# Altium footprint library 研发中心PCB库文件.PcbLib: 333 footprints (part 8 of 21)
Each footprint in its own frame and in the unit in brackets; x right, y up, seen from the top. Pads: shape width x height; smd on the part's side, far side on the other; paste and mask are expansions set on the pad; w line width, h text height; cw(c..) or ccw(c..) is an arc to the next point about the centre after c.
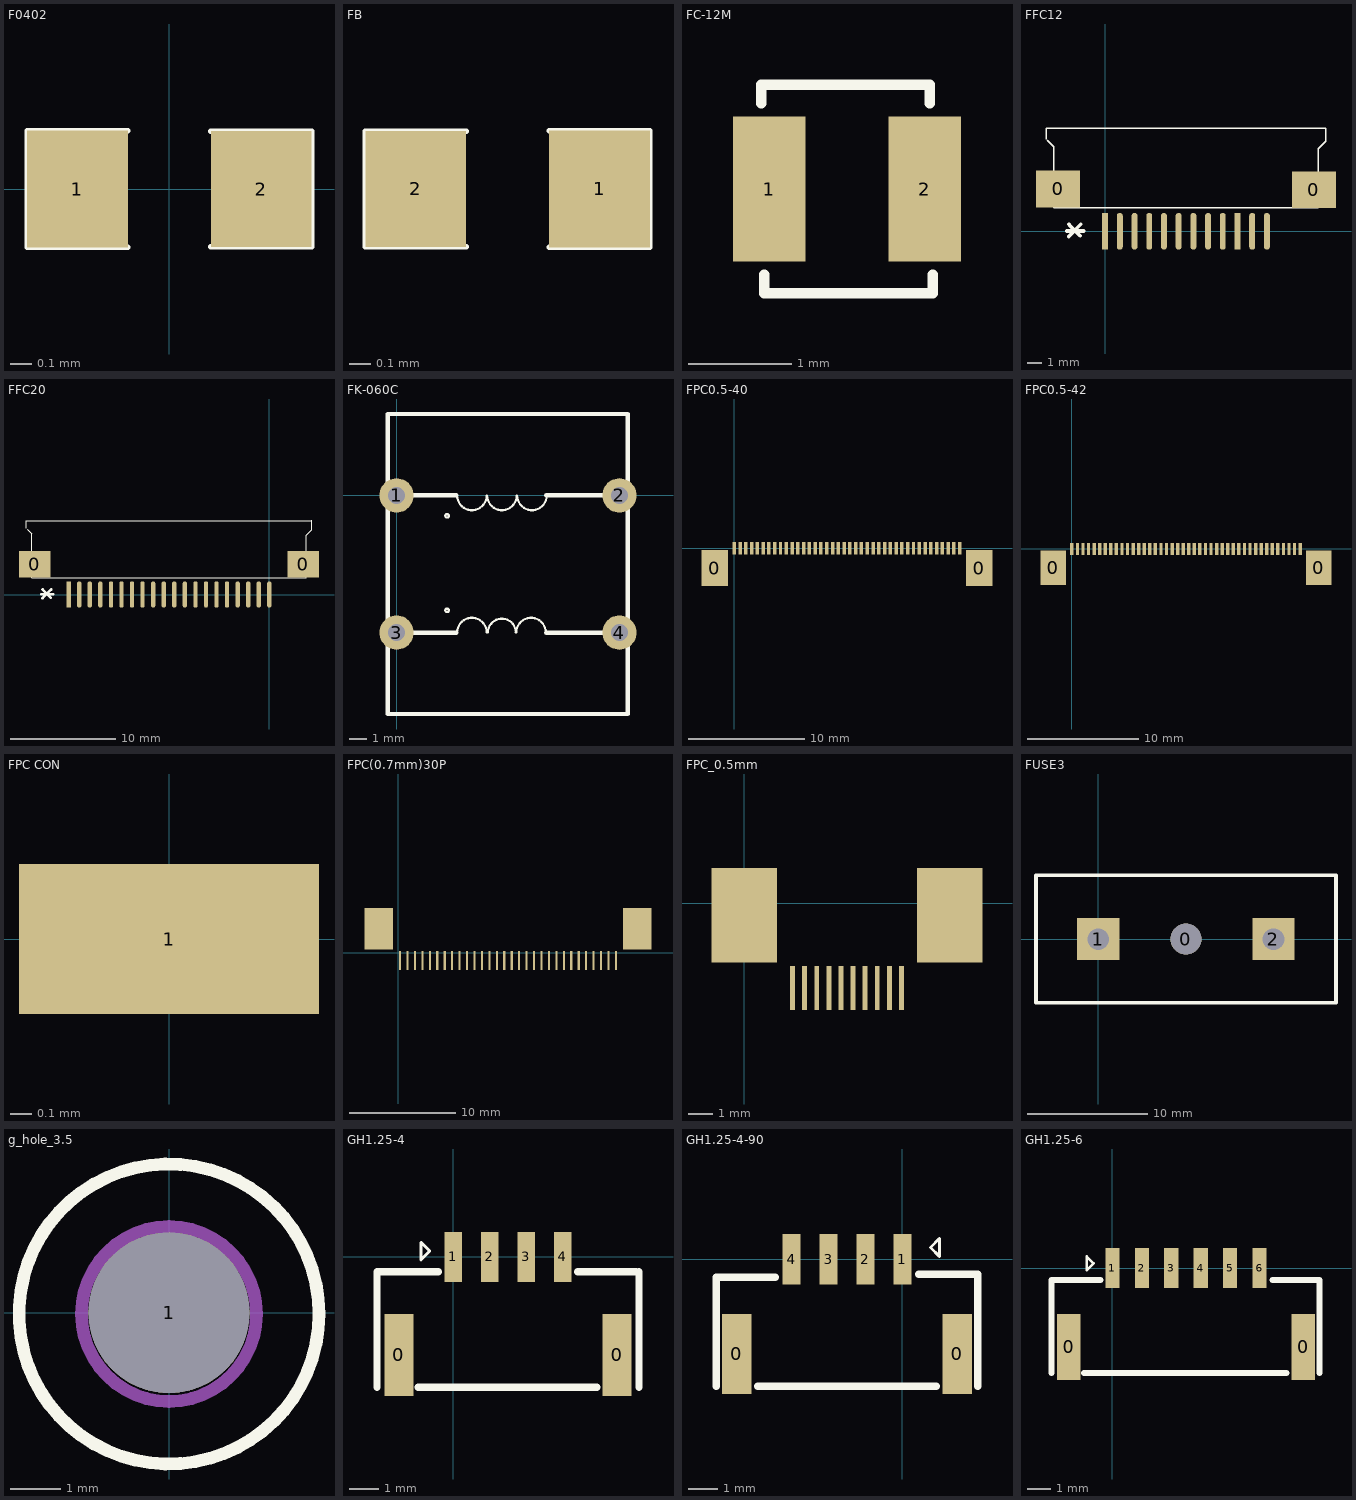
[diagram p7: the footprints below, top view; thin cyan lines are the x and y axes]

## F0402 [mm]
pads (2):
  rect 0.48x0.555 smd: 1(-0.437,0)
  rect 0.48x0.55 smd: 2(0.437,0)
Top Overlay:
  lines w0.025: -0.198,-0.277 -0.677,-0.277 -0.677,0.278 -0.198,0.278 ; 0.198,-0.275 0.677,-0.275 0.677,0.275 0.198,0.275

## FB [mm]
pads (2):
  rect 0.48x0.555 smd: 1(-1267.422,-1268.452)
  rect 0.48x0.55 smd: 2(-1268.297,-1268.452)
Top Overlay:
  lines w0.025: -1268.057,-1268.727 -1268.537,-1268.727 -1268.537,-1268.177 -1268.057,-1268.177 ; -1267.661,-1268.73 -1267.183,-1268.73 -1267.183,-1268.176 -1267.661,-1268.176

## FC-12M [mm]
pads (2):
  rect 0.7x1.4 smd: 1(-1183.5,-1210.5) 2(-1182,-1210.5)
Top Overlay:
  lines w0.102: -1183.58,-1209.67 -1183.58,-1209.49 -1181.95,-1209.49 -1181.95,-1209.67 ; -1183.55,-1211.33 -1183.55,-1211.51 -1181.92,-1211.51 -1181.92,-1211.33

## FFC12 [mm]
pads (14):
  rect 3x2.5 smd: 0(-3.196,2.871) 0(14.204,2.821)
  rect 0.4x2.5 smd: 1(0.004,-0.004) 10(9.004,-0.004)
  oval 0.4x2.5 smd: 2(1.004,-0.004) 3(2.004,-0.004) 4(3.004,-0.004) 5(4.004,-0.004) 6(5.004,-0.004) 7(6.004,-0.004) 8(7.004,-0.004) 9(8.004,-0.004) 11(10.004,-0.004) 12(11.004,-0.004)
Top Overlay:
  lines w0.1: -3.996,6.246 -3.996,6.996 15.004,6.996 15.004,6.121 14.504,5.621 14.504,1.596 -3.496,1.596 -3.496,5.746 -3.921,6.171
  lines w0.254: -2.596,0.021 -1.471,0.021 ; -2.471,-0.354 -1.646,0.471 ; -2.471,0.471 -2.446,0.471 ; -2.396,0.396 -1.696,-0.304

## FFC20 [mm]
pads (22):
  rect 3x2.5 smd: 0(-22.2,2.875) 0(3.2,2.875)
  rect 0.4x2.5 smd: 1(-19,0)
  oval 0.4x2.5 smd: 2(-18,0) 3(-17,0) 4(-16,0) 5(-15,0) 6(-14,0) 7(-13,0) 8(-12,0) 9(-11,0) 10(-10,0) 11(-9,0) 12(-8,0) 13(-7,0) 14(-5.999,0.004) 15(-5,0) 16(-4,0) 17(-3,0) 18(-2,0) 19(-1,0) 20(0,0)
Top Overlay:
  lines w0.1: -23,6.25 -23,7 3.996,7 ; -22.925,6.175 -22.5,5.75 -22.5,1.6 3.5,1.6 3.5,5.625 ; 3.526,5.642 4.026,6.142 ; 4.034,6.15 4.034,7.025
  lines w0.254: -21.6,0.025 -20.475,0.025 ; -21.475,-0.35 -20.65,0.475 ; -21.475,0.475 -21.45,0.475 ; -21.4,0.4 -20.7,-0.3

## FK-060C [mil]
pads (4):
  round 79 hole 39: 1(0,0) 2(512,0) 3(0,-315) 4(512,-315)
Top Overlay:
  circle w5: c116,-47 r4
  circle w5: c116,-264 r4
  lines w5: 139,-315 cw(c173,-315) 207,-315 ; 139,0 ccw(c173,0) 207,0 ; 208,0 ccw(c242,0) 276,0 ; 210,-315 cw(c242,-315) 274,-315 ; 275,-315 cw(c309,-315) 343,-315 ; 277,0 ccw(c311,0) 345,0
  lines w10: 0,-315 137,-315 ; 0,0 137,0 ; 344,-315 513,-315 ; 344,0 513,0 ; -20,-502 531,-502 531,187 -20,187 -20,-502

## FPC0.5-40 [mm]
pads (42):
  rect 2.3x3.1 smd: 0(-1.67,-1.7) 0(21.17,-1.7)
  rect 0.3x1.1 smd: 1(0,0) 2(0.5,0) 3(1,0) 4(1.5,0) 5(2,0) 6(2.5,0) 7(3,0) 8(3.5,0) 9(4,0) 10(4.5,0) 11(5,0) 12(5.5,0) 13(6,0) 14(6.5,0) 15(7,0) 16(7.5,0) 17(8,0) 18(8.5,0) 19(9,0) 20(9.5,0) 21(10,0) 22(10.5,0) 23(11,0) 24(11.5,0) 25(12,0) 26(12.5,0) 27(13,0) 28(13.5,0) 29(14,0) 30(14.5,0) 31(15,0) 32(15.5,0) 33(16,0) 34(16.5,0) 35(17,0) 36(17.5,0) 37(18,0) 38(18.5,0) 39(19,0) 40(19.5,0)

## FPC0.5-42 [mm]
pads (44):
  rect 2.3x3.1 smd: 0(-1.67,-1.7) 0(22.17,-1.7)
  rect 0.3x1.1 smd: 1(0,0) 2(0.5,0) 3(1,0) 4(1.5,0) 5(2,0) 6(2.5,0) 7(3,0) 8(3.5,0) 9(4,0) 10(4.5,0) 11(5,0) 12(5.5,0) 13(6,0) 14(6.5,0) 15(7,0) 16(7.5,0) 17(8,0) 18(8.5,0) 19(9,0) 20(9.5,0) 21(10,0) 22(10.5,0) 23(11,0) 24(11.5,0) 25(12,0) 26(12.5,0) 27(13,0) 28(13.5,0) 29(14,0) 30(14.5,0) 31(15,0) 32(15.5,0) 33(16,0) 34(16.5,0) 35(17,0) 36(17.5,0) 37(18,0) 38(18.5,0) 39(19,0) 40(19.5,0) 41(20,0) 42(20.5,0)

## FPC CON [mm]
pads (1):
  rect 1.4x0.7 smd: 1(0,0)

## FPC(0.7mm)30P [mm]
pads (32):
  rect 0.2x1.8 smd: 1(0.168,-0.737) 2(0.868,-0.737) 3(1.568,-0.737) 4(2.268,-0.737) 5(2.968,-0.737) 6(3.668,-0.737) 7(4.368,-0.737) 8(5.068,-0.737) 9(5.768,-0.737) 10(6.468,-0.737) 11(7.168,-0.737) 12(7.868,-0.737) 13(8.568,-0.737) 14(9.268,-0.737) 15(9.968,-0.737) 16(10.668,-0.737) 17(11.368,-0.737) 18(12.068,-0.737) 19(12.768,-0.737) 20(13.468,-0.737) 21(14.168,-0.737) 22(14.868,-0.737) 23(15.568,-0.737) 24(16.268,-0.737) 25(16.968,-0.737) 26(17.668,-0.737) 27(18.368,-0.737) 28(19.068,-0.737) 29(19.768,-0.737) 30(20.468,-0.737)
  rect 2.7x3.9 smd: ""(-1.835,2.25) ""(22.474,2.23)

## FPC_0.5mm [mm]
pads (12):
  rect 0.2x1.8 smd: 1(2,-3.5) 2(2.5,-3.5) 3(3,-3.5) 4(3.5,-3.5) 5(4,-3.5) 6(4.5,-3.5) 7(5,-3.5) 8(5.5,-3.5) 9(6,-3.5) 10(6.5,-3.5)
  rect 2.7x3.9 smd: ""(0,-0.5) ""(8.5,-0.5)

## FUSE3 [mil]
pads (3):
  round 102 hole 102: 0(287,0)
  rect 138x138 hole 71: 1(0,0) 2(574,0)
Top Overlay:
  lines w12: 287,-208 779,-208 779,209 -204,209 -204,-208 297,-208

## g_hole_3.5 [mm]
pads (1):
  round 3.216 hole 3.216: 1(0,0)
Top Overlay:
  circle w0.254: c0,-0.025 r3
Internal Plane 1:
  circle w1.016: c-0.004,0.025 r2.2
Internal Plane 2:
  circle w1.016: c0.021,0 r2.2
Mechanical 1:
  circle w0.254: c0,-0.025 r1.75

## GH1.25-4 [mm]
pads (6):
  rect 1x2.8 smd: 0(-1.85,-3.35) 0(5.6,-3.35)
  rect 0.6x1.7 smd: 1(0,0) 2(1.25,0) 3(2.5,0) 4(3.75,0)
Top Overlay:
  lines w0.1: -0.8,0.2 -1.1,0.5 -1.1,0.3 -1.1,-0.1 -0.8,0.2 ; -0.8,0.2 -0.8,0.2
  lines w0.254: -2.6,-4.45 -2.6,-0.5 -0.5,-0.5 ; -1.2,-4.45 4.9,-4.45 ; 4.25,-0.5 6.25,-0.5 ; 6.35,-4.45 6.35,-0.5

## GH1.25-4-90 [mm]
pads (6):
  rect 1x2.7 smd: 0(-5.6,-3.2) 0(1.85,-3.2)
  rect 0.6x1.7 smd: 1(0,0) 2(-1.25,0) 3(-2.5,0) 4(-3.75,0)
Top Overlay:
  lines w0.1: 0.95,0.4 1.25,0.1 1.25,0.3 1.25,0.7 0.95,0.4 ; 0.95,0.4 0.95,0.4
  lines w0.254: -6.3,-4.3 -6.3,-0.6 -4.3,-0.6 ; -4.9,-4.3 1.15,-4.3 ; 0.55,-0.5 2.55,-0.5 2.55,-4.3

## GH1.25-6 [mm]
pads (8):
  rect 1x2.8 smd: 0(-1.85,-3.35) 0(8.1,-3.35)
  rect 0.6x1.7 smd: 1(0,0) 2(1.25,0) 3(2.5,0) 4(3.75,0) 5(5,0) 6(6.25,0)
Top Overlay:
  lines w0.1: -0.8,0.2 -1.1,0.5 -1.1,0.3 -1.1,-0.1 -0.8,0.2 ; -0.8,0.2 -0.8,0.2
  lines w0.254: -2.6,-4.45 -2.6,-0.5 -0.5,-0.5 ; -1.2,-4.45 7.4,-4.45 ; 6.8,-0.5 8.8,-0.5 8.8,-4.45